# Altium schematic symbol library schematicLib.SchLib: 2 symbols
Pins are listed as number, name and electrical type; pins without a type are passive.

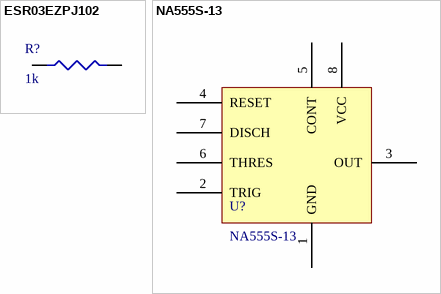
[diagram p0: symbols ESR03EZPJ102 to NA555S-13]

## ESR03EZPJ102
designator R?, comment 1k
RES SMD 1K OHM 5% 1/4W 0603; Manufacturer: Rohm; Manufacturer Part Number: ESR03EZPJ102; Resistance: 1kR; Temperature Coefficient: 200ppm/°C; Max Power Dissipation: 250mW; Supplier 1: Future Electronics; Stock 1: 5000; Pricing 1: 1=0.0217, 100=0.0149, 250=0.0139, 500=0.0131, 1500=0.0109 (USD); Case/Package: 0603; Case Code (Metric): 1608; Case Code (Imperial): 0603; Min Operating Temperature: -55°C; Max Operating Temperature: 155°C; Tolerance: 5%; Package Quantity: 1; Packaging: Tape and Reel; Composition: Thick Film; Number of Terminations: 2; Features: Automotive AEC-Q200; Length: 0.063inch; Height: 0.022inch; Width: 0.031inch; Lead Free: Lead Free; ComponentLink1URL: https://www.rohm.com/datasheet/ESR01MZPF/esr-e?src-supplier=Digi-Key; ComponentLink1Description: https://www.rohm.com/datasheet/ESR01MZPF/esr-e?src-supplier=Digi-Key; Supplier Part Number 1: ESR03EZPJ102-CUTT
footprint R0603 (Chip Resistor, 2-Leads, Body 1.60x0.80mm, IPC Medium Density)
pins: 1, 2

## NA555S-13
designator U?
Standard Timer Single 8-Pin SO T/R; Manufacturer: Diodes Zetex; Frequency: 500kHz; Min Supply Voltage: 4.5V; Max Supply Voltage: 16V; Operating Supply Current: 13mA; Quiescent Current: 15mA; High Level Output Current: -200mA; Low Level Output Current: 200mA; Number of Timers/Counters: 1; Output Type: TTL; Supplier 1: Digi-Key; Manufacturer Part Number: NA555S-13; Stock 1: 8755; Pricing 1: 1=0.39, 10=0.338, 100=0.2524, 500=0.19828, 1000=0.15322 (USD); Mount: Surface Mount; Case/Package: SO; Number of Pins: 8; Weight: 0.00261oz; Min Operating Temperature: -40°C; Max Operating Temperature: 105°C; Package Quantity: 2500; Packaging: Tape and Reel; Nominal Supply Current: 13mA; Supply Type: Single; Radiation Hardening: No; Lead Free: Lead Free; REACH SVHC: No SVHC; ComponentLink1URL: https://www.diodes.com/assets/Datasheets/NE555_SA555_NA555.pdf; ComponentLink1Description: https://www.diodes.com/assets/Datasheets/NE555_SA555_NA555.pdf; ComponentLink2URL: http://www.mouser.com/ds/2/115/NE555_SA555_NA555-51615.pdf; ComponentLink2Description: http://www.mouser.com/ds/2/115/NE555_SA555_NA555-51615.pdf; Supplier Part Number 1: NA555S-13DIDKR-ND
footprint SOIC-8 (SOIC, 8-Leads, Body 4.90x3.90mm, Pitch 1.27mm, IPC Medium Density)
pins: 1 GND, 2 TRIG, 3 OUT, 4 RESET, 5 CONT, 6 THRES, 7 DISCH, 8 VCC